# Altium footprint library SS-12D01.PcbLib: 1 footprints
Each footprint in its own frame and in the unit in brackets; x right, y up, seen from the top. Pads: shape width x height; smd on the part's side, far side on the other; paste and mask are expansions set on the pad; w line width, h text height; cw(c..) or ccw(c..) is an arc to the next point about the centre after c.
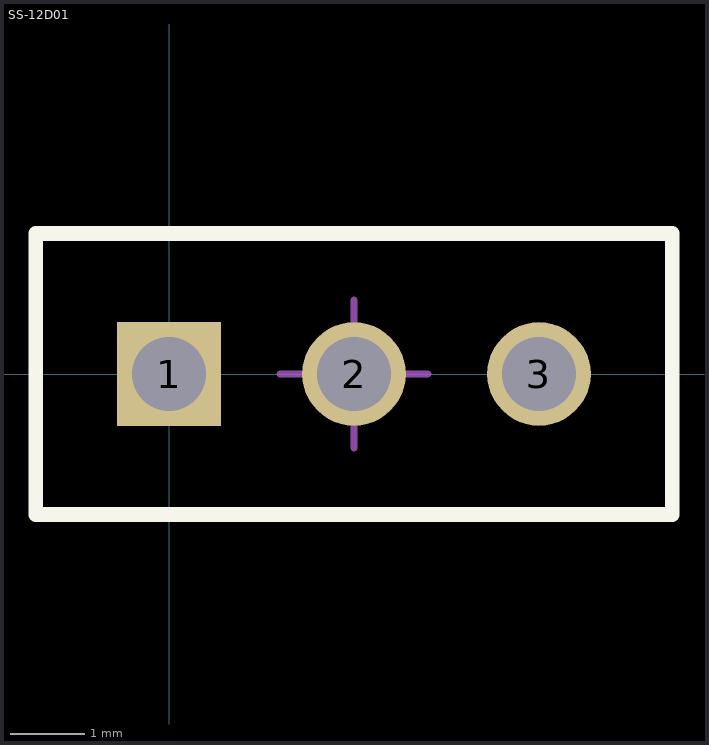
[diagram p0: the footprint, top view; thin cyan lines are the x and y axes]

## SS-12D01 [mm]
pads (3):
  rect 1.4x1.4 hole 1: 1(0,0)
  round 1.4 hole 1: 2(2.5,0) 3(5,0)
Top Overlay:
  lines w0.2: -1.8,-1.9 -1.8,1.9 6.8,1.9 6.8,-1.9 -1.8,-1.9
Mechanical 15:
  lines w0.1: 1.5,0 3.5,0 ; 2.5,-1 2.5,1
3D body: height 7.05, standoff -3.65, extent -1.8,-1.9 6.8,1.9